# Altium footprint library Diodes.PcbLib: 2 footprints
Each footprint in its own frame and in the unit in brackets; x right, y up, seen from the top. Pads: shape width x height; smd on the part's side, far side on the other; paste and mask are expansions set on the pad; w line width, h text height; cw(c..) or ccw(c..) is an arc to the next point about the centre after c.
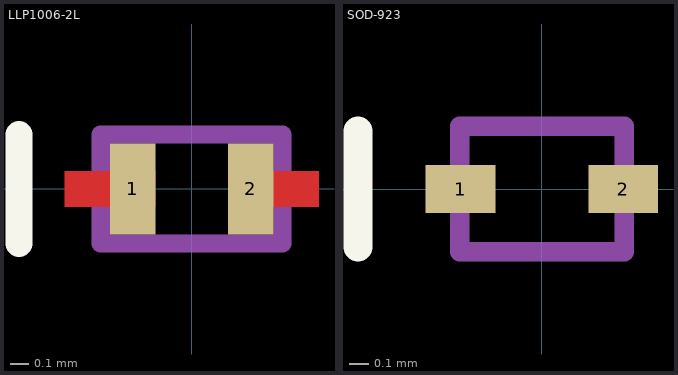
[diagram p0: the footprints below, top view; thin cyan lines are the x and y axes]

## LLP1006-2L [mm]
pads (2):
  rect 0.25x0.5 smd paste+0 mask+0.05: 1(-0.325,0) 2(0.325,0)
Top Layer:
  rectangle: 0.2,-0.1 0.7,0.1
  rectangle: -0.7,-0.1 -0.2,0.1
Top Overlay:
  lines w0.15: -0.95,-0.3 -0.95,0.3
Mechanical 15:
  lines w0.1: -0.5,-0.3 -0.5,0.3 0.5,0.3 0.5,-0.3 -0.5,-0.3
Mechanical 17:
  text ".designator" at -0.35,-0.175 h0.51
3D body: height 0.5, standoff 0, extent -0.499,-0.299 0.499,0.299

## SOD-923 [mm]
pads (2):
  rect 0.36x0.25 smd paste+0 mask+0.05: 1(-0.42,0) 2(0.42,0)
Top Overlay:
  lines w0.15: -0.95,-0.3 -0.95,0.3
Mechanical 15:
  lines w0.1: -0.425,-0.325 0.425,-0.325 0.425,0.325 -0.425,0.325 -0.425,-0.325
Mechanical 17:
  text ".designator" at -0.35,-0.175 h0.51
3D body: height 0.45, standoff 0, extent -0.424,-0.324 0.424,0.324